# EAGLE library part CONNECTOR_0.49 (library Rohit_Libs)
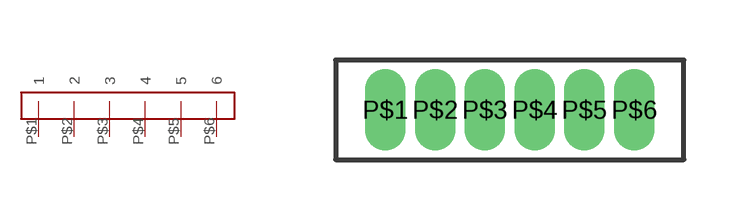
[diagram p11: symbol with the pads of CONNECTOR_0.49; footprint CONNECTOR_0.49]

Designator prefix -

## CONNECTOR_0.49  [CONNECTOR_0.49]
P$1  1  pas
P$2  2  pas
P$3  3  pas
P$4  4  pas
P$5  5  pas
P$6  6  pas

## Footprint CONNECTOR_0.49 (pad centres in mm)
drill 0.5 pad 1.016 long: P$1 -3.175,0; P$2 -1.93,0; P$3 -0.686,0; P$4 0.559,0; P$5 1.803,0; P$6 3.048,0